# EAGLE library part MICROCHIP-MCP3426 (library FaBo-ADC)
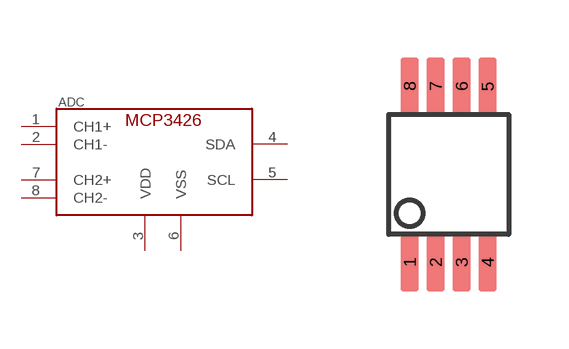
[diagram p3: symbol with the pads of MICROCHIP-MCP3426; footprint MICROCHIP-MCP3426]

Designator prefix ADC

## MICROCHIP-MCP3426  [MICROCHIP-MCP3426]
1  CH1+
2  CH1-
3  VDD
4  SDA
5  SCL
6  VSS
7  CH2+
8  CH2-

## Footprint MICROCHIP-MCP3426 (pad centres in mm)
smd 0.45 x 1.45: 1 -0.975,-2.2; 2 -0.325,-2.2; 3 0.325,-2.2; 4 0.975,-2.2; 5 0.975,2.2; 6 0.325,2.2; 7 -0.325,2.2; 8 -0.975,2.2